# Altium integrated library Littlefuse - ResettablePTCs.IntLib: 2 symbols
Pins are listed as number, name and electrical type; pins without a type are passive.

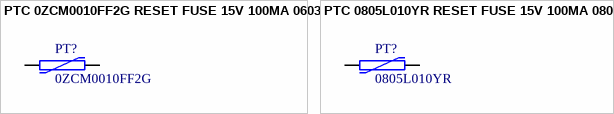
[diagram p0: symbols PTC 0ZCM0010FF2G RESET FUSE 15V 100MA 0603 to PTC 0805L010YR RESET FUSE 15V 100MA 0805]

## PTC 0ZCM0010FF2G RESET FUSE 15V 100MA 0603
designator PT?, comment 0ZCM0010FF2G
Polymeric PTC Resettable Fuse 15V 100mA Ih Surface Mount 0603 (1608 Metric), Concave; Manufacturer 1: Bel Fuse Inc.; Part Number 1: 0ZCM0010FF2G; Value: 0ZCM0010FF2G
footprint 0603L (General SMD 0603 footprint)
pins: 1, 2

## PTC 0805L010YR RESET FUSE 15V 100MA 0805
designator PT?, comment 0805L010YR
Polymeric PTC Resettable Fuse 15V 100mA Ih Surface Mount 0805 (2012 Metric), Concave; Manufacturer 1: Littelfuse Inc.; Part Number 1: 0805L010YR; Value: 0805L010YR
footprint 0805L
pins: 1, 2